# Altium integrated library CAP 0603.IntLib: 1 symbol
Pins are listed as number, name and electrical type; pins without a type are passive.

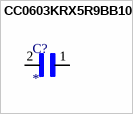
[diagram p0: symbol CC0603KRX5R9BB105]

## CC0603KRX5R9BB105
designator C?
Cap Ceramic 1uF 50V X5R 10% SMD 0603 85Â°C Paper T/R; MP: CC0603KRX5R9BB105; Package: None; Price: None; Value: *; Availability: Unavailable
footprint CAPC1608X90
pins: 1, 2